# Altium footprint library LFPAK4(4.90X4.15).PcbLib: 1 footprints
Each footprint in its own frame and in the unit in brackets; x right, y up, seen from the top. Pads: shape width x height; smd on the part's side, far side on the other; paste and mask are expansions set on the pad; w line width, h text height; cw(c..) or ccw(c..) is an arc to the next point about the centre after c.
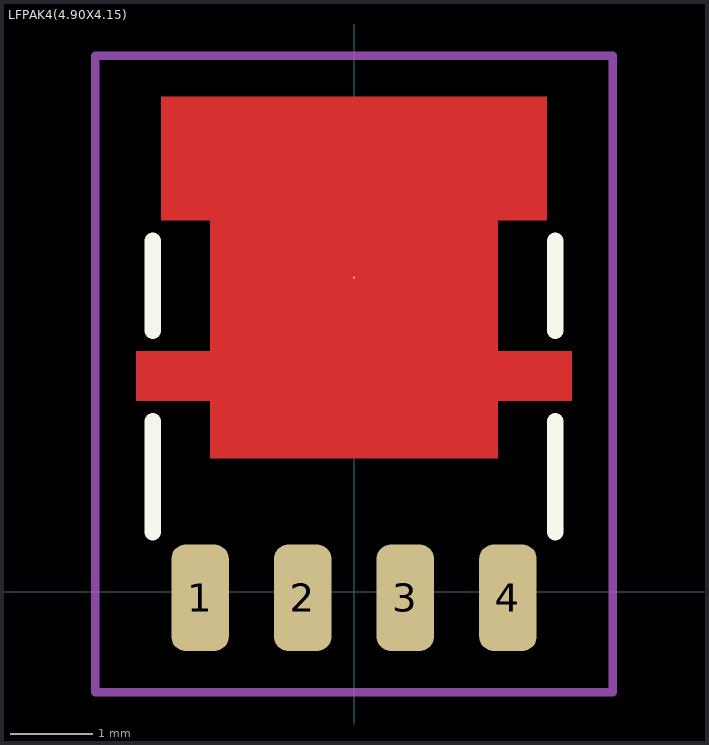
[diagram p0: the footprint, top view; thin cyan lines are the x and y axes]

## LFPAK4(4.90X4.15) [mm]
pads (5):
  rrect50% 0.7x1.3 smd: 1(-1.875,-0.075) 2(-0.625,-0.075) 3(0.625,-0.075) 4(1.875,-0.075)
  round 0.025 smd: 5(0,3.825)
Top Layer:
  region: 1.75,1.625 1.75,2.325 2.65,2.325 2.65,2.925 1.75,2.925 1.75,4.525 2.35,4.525 2.35,6.025 -2.35,6.025 -2.35,4.525 -1.75,4.525 -1.75,2.925 -2.65,2.925 -2.65,2.325 -1.75,2.325 -1.75,1.625
Top Overlay:
  lines w0.2: -2.45,0.725 -2.45,2.075 ; -2.45,3.175 -2.45,4.275 ; 2.45,0.725 2.45,2.075 ; 2.45,3.175 2.45,4.275
Top Courtyard:
  lines w0.1: -3.15,-1.225 -1.9,-1.225 3.15,-1.225 3.15,6.525 -3.15,6.525 -3.15,-1.225
3D body "NVMYS3D3N06CLTWG.stp": height 1.3, standoff 0, extent -2.575,-0.425 2.575,5.725